# EAGLE library part MTI-7-T (library ruark2)
Accelerometer, Gyroscope, Magnetometer, 9 Axis Sensor I²C, SPI, UART Output
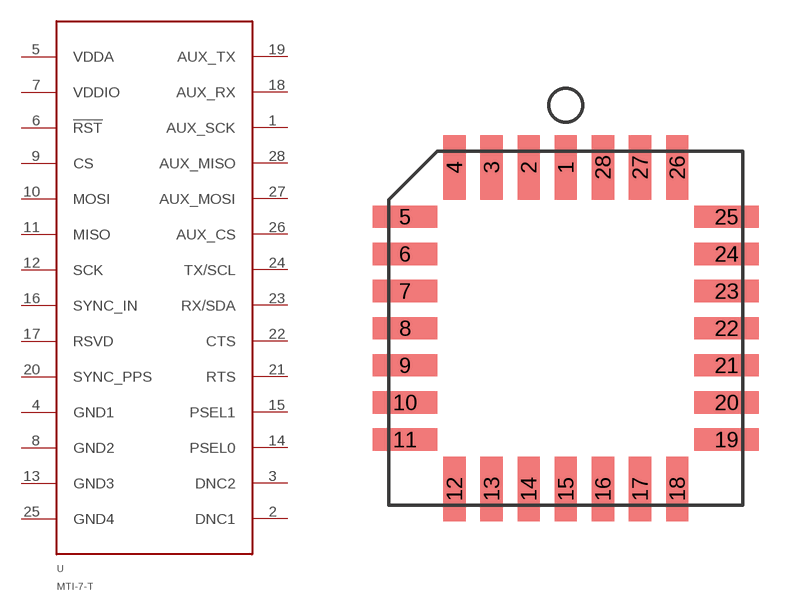
[diagram p101: symbol with the pads of MTI-1S; footprint MTI-1S]

Designator prefix U

## MTI-7-T (PARTNO: MTI-7-T-ND)  [MTI-1S]
1  AUX_SCK
2  DNC1
3  DNC2
4  GND1
5  VDDA
6  !RST
7  VDDIO
8  GND2
9  CS
10  MOSI
11  MISO
12  SCK
13  GND3
14  PSEL0
15  PSEL1
16  SYNC_IN
17  RSVD
18  AUX_RX
19  AUX_TX
20  SYNC_PPS
21  RTS
22  CTS
23  RX/SDA
24  TX/SCL
25  GND4
26  AUX_CS
27  AUX_MOSI
28  AUX_MISO

## Footprint MTI-1S (pad centres in mm)
smd 0.76 x 2.2: 1 0,5.5; 2 -1.27,5.5; 3 -2.54,5.5; 4 -3.81,5.5; 12 -3.81,-5.5; 13 -2.54,-5.5; 14 -1.27,-5.5; 15 0,-5.5; 16 1.27,-5.5; 17 2.54,-5.5; 18 3.81,-5.5; 26 3.81,5.5; 27 2.54,5.5; 28 1.27,5.5
smd 2.2 x 0.76: 5 -5.5,3.81; 6 -5.5,2.54; 7 -5.5,1.27; 8 -5.5,0; 9 -5.5,-1.27; 10 -5.5,-2.54; 11 -5.5,-3.81; 19 5.5,-3.81; 20 5.5,-2.54; 21 5.5,-1.27; 22 5.5,0; 23 5.5,1.27; 24 5.5,2.54; 25 5.5,3.81